# Altium footprint library PCB - CAPACITOR - CHIP - WCAP_1206_3.2x1.6x1.6mm.PCBLIB: 1 footprints
Each footprint in its own frame and in the unit in brackets; x right, y up, seen from the top. Pads: shape width x height; smd on the part's side, far side on the other; paste and mask are expansions set on the pad; w line width, h text height; cw(c..) or ccw(c..) is an arc to the next point about the centre after c.
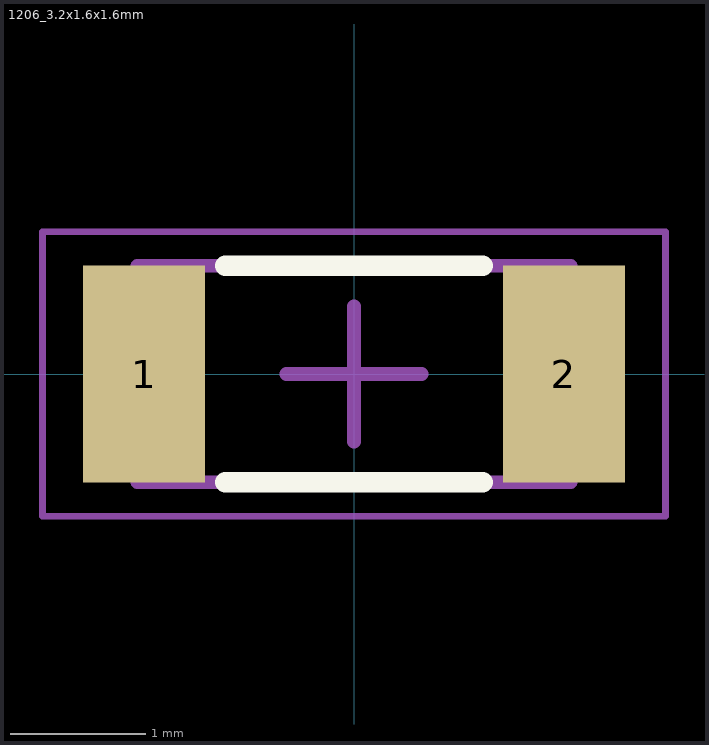
[diagram p0: the footprint, top view; thin cyan lines are the x and y axes]

## 1206_3.2x1.6x1.6mm [mm] "Ceramic Capacitors, 1206, body 3.2x1.6mm"
height 1.6
pads (2):
  rect 0.9x1.6 smd: 1(-1.55,0) 2(1.55,0)
Top Overlay:
  lines w0.15: -0.95,-0.8 0.95,-0.8 ; -0.95,0.8 0.95,0.8
M5 Assembly Top:
  lines w0.1: -1.6,-0.8 -1.6,0.8 1.6,0.8 1.6,-0.8 -1.6,-0.8
  text ".Designator" at -1,-0.4 h0.76
Mechanical 15:
  lines w0.05: -2.3,-1.05 -2.3,1.05 2.3,1.05 2.3,-1.05 -2.3,-1.05
  lines w0.1: -0.5,0 0.5,0 ; 0,-0.5 0,0.5
3D body "3.2x1.6x1.6x0.6.stp": height 1.63, standoff 0.03, extent -1.6,-0.8 1.6,0.8